# Altium footprint library ABRACON ASVTX-09.PCBLIB: 1 footprints
Each footprint in its own frame and in the unit in brackets; x right, y up, seen from the top. Pads: shape width x height; smd on the part's side, far side on the other; paste and mask are expansions set on the pad; w line width, h text height; cw(c..) or ccw(c..) is an arc to the next point about the centre after c.
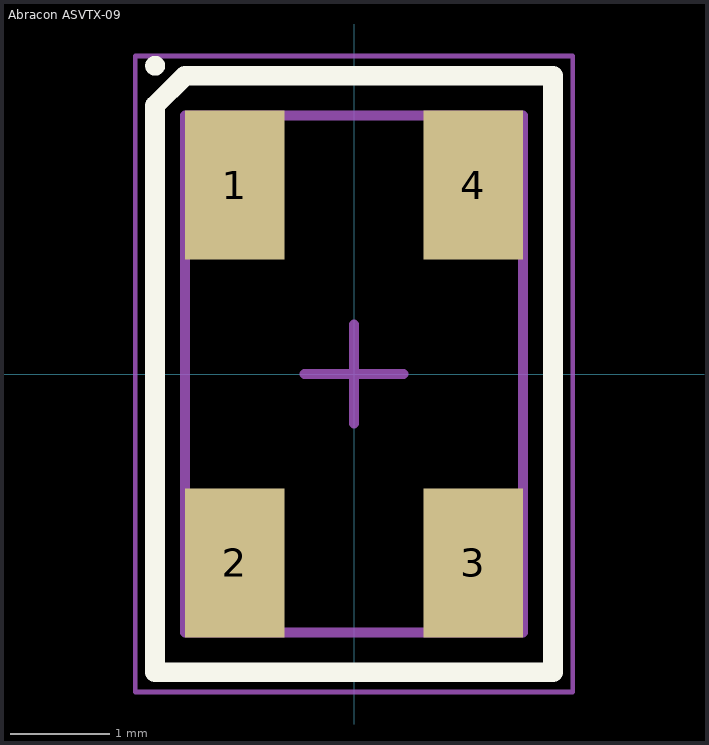
[diagram p0: the footprint, top view; thin cyan lines are the x and y axes]

## Abracon ASVTX-09 [mm] "XO, 4-Leads, Body 5.00x3.20mm, Pitch 3.70mm, IPC Medium Density"
height 1.5
pads (4):
  rect 1x1.5 smd: 1(-1.2,1.9) 2(-1.2,-1.9) 3(1.2,-1.9) 4(1.2,1.9)
Top Overlay:
  circle w0.1: c-2,3.1 r0.05
  lines w0.2: -2,-3 2,-3 2,3 -1.7,3 -2,2.7 -2,-3
Mechanical 13:
  lines w0.1: -1.7,-2.6 -1.7,2.6 1.7,2.6 1.7,-2.6 -1.7,-2.6
Mechanical 15:
  lines w0.05: -2.2,-3.2 -2.2,3.2 2.2,3.2 2.2,-3.2 -2.2,-3.2
  lines w0.1: -0.5,0 0.5,0 ; 0,-0.5 0,0.5
3D body "Abracon ASVTX-09.STEP": height 1.5, standoff 0, extent -1.625,-2.525 1.625,2.525